# EAGLE library part BQ24725 (library RNH_BQ24725)
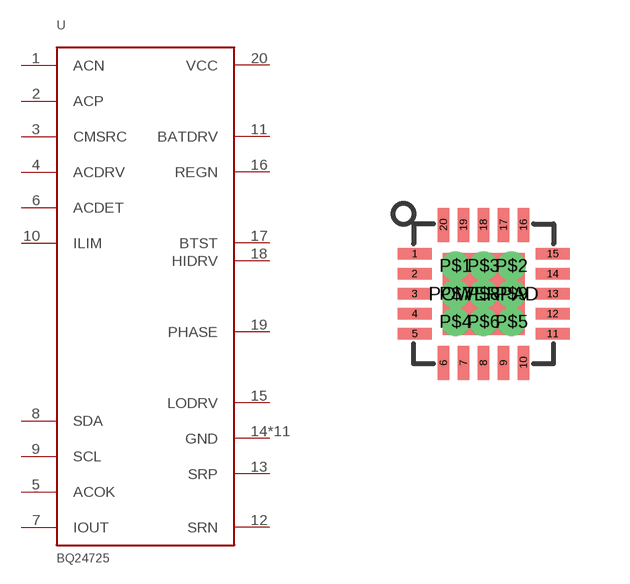
[diagram p0: symbol with the pads of S-PVQFN-N20; footprint S-PVQFN-N20]

Designator prefix U

## BQ24725QFN-20  [S-PVQFN-N20]
1  ACN
2  ACP
3  CMSRC
4  ACDRV
5  ACOK
6  ACDET
7  IOUT
8  SDA
9  SCL
10  ILIM
11  BATDRV
12  SRN
13  SRP
14  GND  pwr
15  LODRV
16  REGN
17  BTST
18  HIDRV
19  PHASE
20  VCC  pwr
P$1  GND  pwr
P$2  GND  pwr
P$3  GND  pwr
P$4  GND  pwr
P$5  GND  pwr
P$6  GND  pwr
P$7  GND  pwr
P$8  GND  pwr
P$9  GND  pwr
POWERPAD  GND  pwr

## Footprint S-PVQFN-N20 (pad centres in mm)
smd 0.85 x 0.28: 1 -1.725,1; 2 -1.725,0.5; 3 -1.725,0; 4 -1.725,-0.5; 5 -1.725,-1; 11 1.725,-1; 12 1.725,-0.5; 13 1.725,0; 14 1.725,0.5; 15 1.725,1
smd 0.28 x 0.85: 6 -1,-1.725; 7 -0.5,-1.725; 8 0,-1.725; 9 0.5,-1.725; 10 1,-1.725; 16 1,1.725; 17 0.5,1.725; 18 0,1.725; 19 -0.5,1.725; 20 -1,1.725
drill 0.203 pad 0.61: P$1 -0.7,0.7; P$2 0.7,0.7; P$3 0,0.7; P$4 -0.7,-0.7; P$5 0.7,-0.7; P$6 0,-0.7; P$7 -0.7,0; P$8 0,0; P$9 0.7,0
smd 2.05 x 2.05: POWERPAD 0,0